# EAGLE library part ADUC841-MQFP (library aduc841)
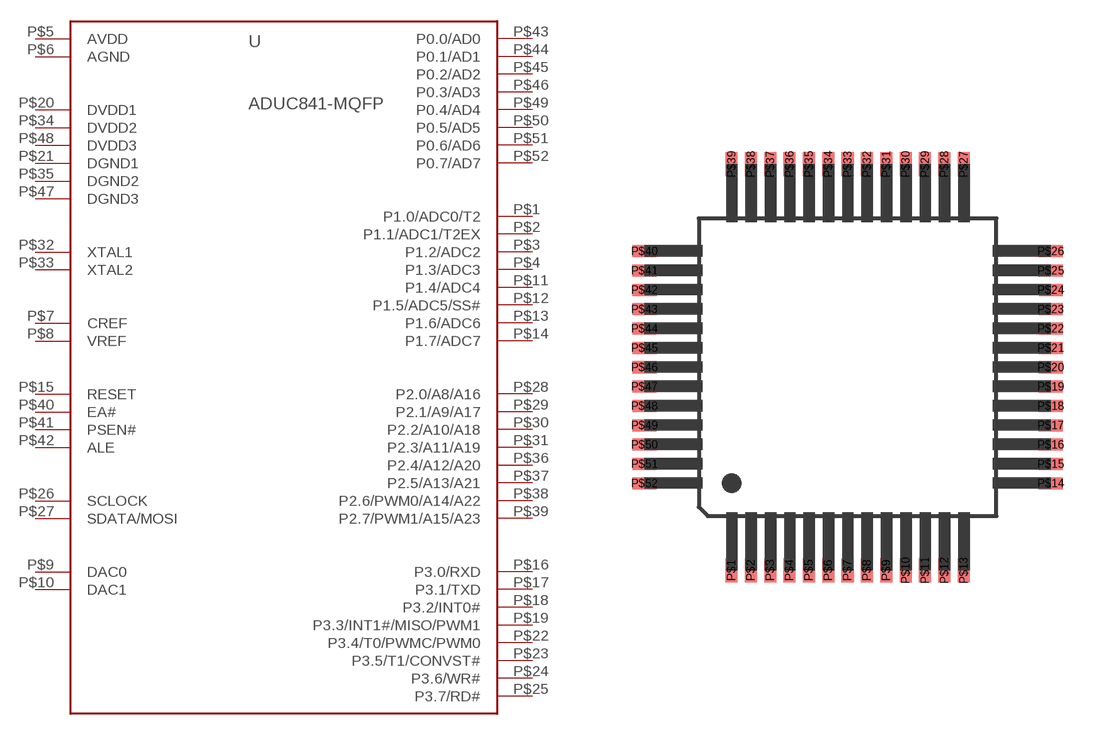
[diagram p1: symbol with the pads of 52-MQFP; footprint 52-MQFP]

Designator prefix -

## ADUC841-MQFP  [52-MQFP]
P$1  P1.0/ADC0/T2
P$2  P1.1/ADC1/T2EX
P$3  P1.2/ADC2
P$4  P1.3/ADC3
P$5  AVDD
P$6  AGND
P$7  CREF
P$8  VREF
P$9  DAC0
P$10  DAC1
P$11  P1.4/ADC4
P$12  P1.5/ADC5/SS#
P$13  P1.6/ADC6
P$14  P1.7/ADC7
P$15  RESET
P$16  P3.0/RXD
P$17  P3.1/TXD
P$18  P3.2/INT0#
P$19  P3.3/INT1#/MISO/PWM1
P$20  DVDD1  pwr
P$21  DGND1  pwr
P$22  P3.4/T0/PWMC/PWM0
P$23  P3.5/T1/CONVST#
P$24  P3.6/WR#
P$25  P3.7/RD#
P$26  SCLOCK
P$27  SDATA/MOSI
P$28  P2.0/A8/A16
P$29  P2.1/A9/A17
P$30  P2.2/A10/A18
P$31  P2.3/A11/A19
P$32  XTAL1
P$33  XTAL2
P$34  DVDD2  pwr
P$35  DGND2  pwr
P$36  P2.4/A12/A20
P$37  P2.5/A13/A21
P$38  P2.6/PWM0/A14/A22
P$39  P2.7/PWM1/A15/A23
P$40  EA#
P$41  PSEN#
P$42  ALE
P$43  P0.0/AD0
P$44  P0.1/AD1
P$45  P0.2/AD2
P$46  P0.3/AD3
P$47  DGND3  pwr
P$48  DVDD3  pwr
P$49  P0.4/AD4
P$50  P0.5/AD5
P$51  P0.6/AD6
P$52  P0.7/AD7

## Footprint 52-MQFP (pad centres in mm)
smd 0.406 x 0.813: P$1 0,-2.925; P$2 0.65,-2.925; P$3 1.3,-2.925; P$4 1.95,-2.925; P$5 2.6,-2.925; P$6 3.25,-2.925; P$7 3.9,-2.925; P$8 4.55,-2.925; P$9 5.2,-2.925; P$10 5.85,-2.925; P$11 6.5,-2.925; P$12 7.15,-2.925; P$13 7.8,-2.925; P$27 7.8,10.725; P$28 7.15,10.725; P$29 6.5,10.725; P$30 5.85,10.725; P$31 5.2,10.725; P$32 4.55,10.725; P$33 3.9,10.725; P$34 3.25,10.725; P$35 2.6,10.725; P$36 1.95,10.725; P$37 1.3,10.725; P$38 0.65,10.725; P$39 0,10.725
smd 0.813 x 0.406: P$14 10.725,0; P$15 10.725,0.65; P$16 10.725,1.3; P$17 10.725,1.95; P$18 10.725,2.6; P$19 10.725,3.25; P$20 10.725,3.9; P$21 10.725,4.55; P$22 10.725,5.2; P$23 10.725,5.85; P$24 10.725,6.5; P$25 10.725,7.15; P$26 10.725,7.8; P$40 -2.925,7.8; P$41 -2.925,7.15; P$42 -2.925,6.5; P$43 -2.925,5.85; P$44 -2.925,5.2; P$45 -2.925,4.55; P$46 -2.925,3.9; P$47 -2.925,3.25; P$48 -2.925,2.6; P$49 -2.925,1.95; P$50 -2.925,1.3; P$51 -2.925,0.65; P$52 -2.925,0